# Altium schematic symbol library Schlib3.SchLib: 5 symbols
Pins are listed as number, name and electrical type; pins without a type are passive.

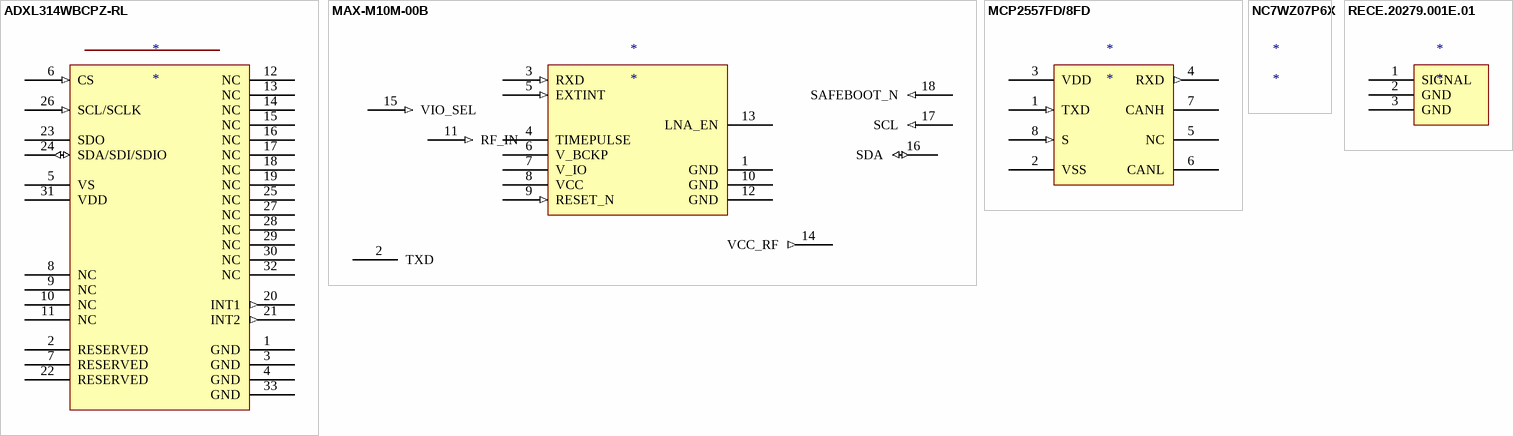
[diagram p0: symbols ADXL314WBCPZ-RL to RECE.20279.001E.01]

## ADXL314WBCPZ-RL
designator *
pins: 1 GND, 2 RESERVED, 3 GND, 4 GND, 5 VS, 6 CS (in), 7 RESERVED, 8 NC, 9 NC, 10 NC, 11 NC, 12 NC, 13 NC, 14 NC, 15 NC, 16 NC, 17 NC, 18 NC, 19 NC, 20 INT1 (out), 21 INT2 (out), 22 RESERVED, 23 SDO, 24 SDA/SDI/SDIO (io), 25 NC, 26 SCL/SCLK (in), 27 NC, 28 NC, 29 NC, 30 NC, 31 VDD, 32 NC, 33 GND

## MAX-M10M-00B
designator *
pins: 1 GND, 2 TXD, 3 RXD (in), 4 TIMEPULSE, 5 EXTINT (in), 6 V_BCKP, 7 V_IO, 8 VCC, 9 RESET_N (in), 10 GND, 11 RF_IN (in), 12 GND, 13 LNA_EN, 14 VCC_RF (out), 15 VIO_SEL (in), 16 SDA (io), 17 SCL (in), 18 SAFEBOOT_N (in)

## MCP2557FD/8FD
designator *
pins: 1 TXD (in), 2 VSS, 3 VDD, 4 RXD (out), 5 NC, 6 CANL, 7 CANH, 8 S (in)

## NC7WZ07P6X
designator *

## RECE.20279.001E.01
designator *
pins: 1 SIGNAL, 2 GND, 3 GND